# Altium schematic symbol library 2020-03-25_21-45-49.SchLib: 2 symbols
Pins are listed as number, name and electrical type; pins without a type are passive.

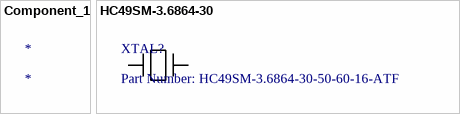
[diagram p0: symbols Component_1 to HC49SM-3.6864-30]

## Component_1
designator *

## HC49SM-3.6864-30
designator XTAL?, comment Part Number: HC49SM-3.6864-30-50-60-16-ATF
No Description Available; Vendor: Multicomp; Built_By: EMA_Cory; Manufacturer_Part_Number: HC49SM-3.6864-30-50-60-16-ATF; Copyright: Copyright (C) 2018 Accelerated Designs. All rights reserved; RefDes: RefDes; Type: DEV; Value: Value
footprint XTAL_HC49SM
pins: 1, 2